# Altium footprint library clever_watch.PcbLib: 30 footprints (part 1 of 2)
Each footprint in its own frame and in the unit in brackets; x right, y up, seen from the top. Pads: shape width x height; smd on the part's side, far side on the other; paste and mask are expansions set on the pad; w line width, h text height; cw(c..) or ccw(c..) is an arc to the next point about the centre after c.
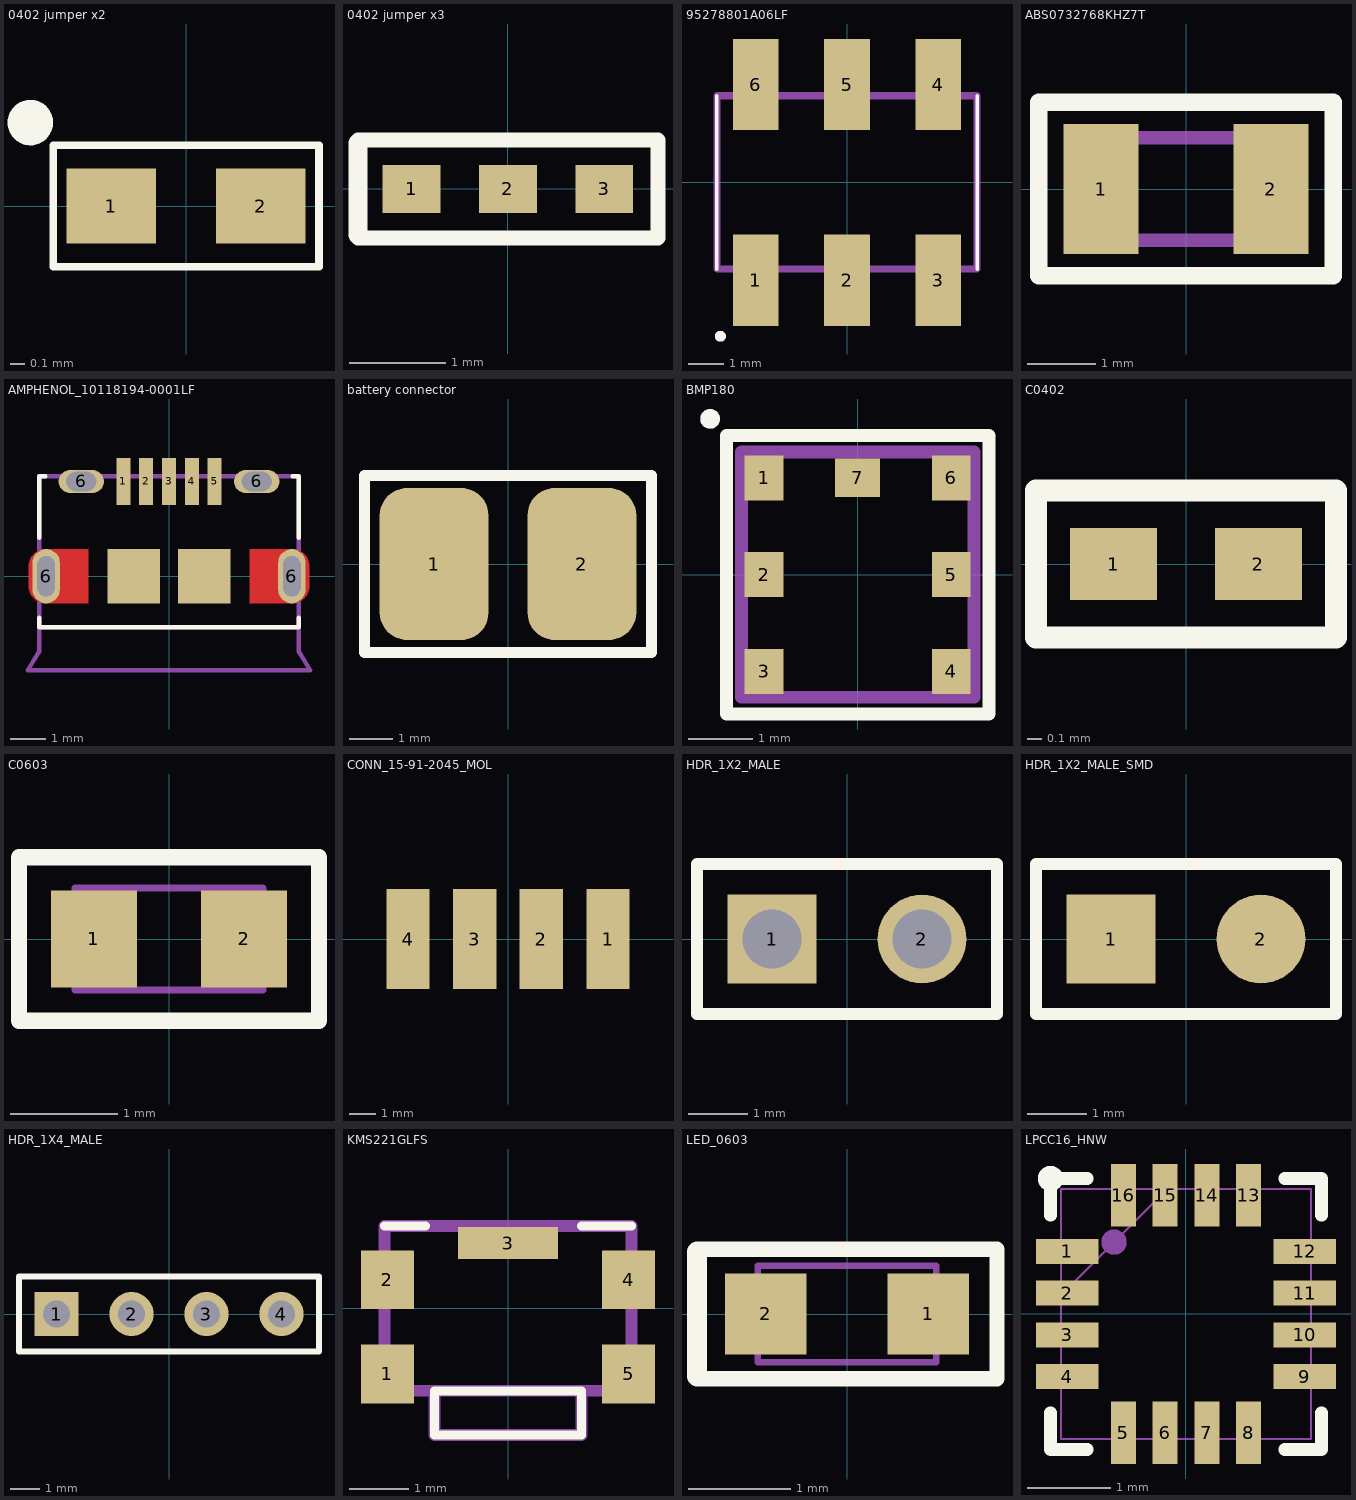
[diagram p0: the footprints below, top view; thin cyan lines are the x and y axes]

## 0402 jumper x2 [mm]
pads (2):
  rect 0.6x0.5 smd: 1(-0.5,0) 2(0.5,0)
Top Overlay:
  circle w0.152: c-1.041,0.559 r0.076
  lines w0.051: -0.889,-0.406 0.889,-0.406 0.889,0.406 -0.889,0.406 -0.889,-0.406

## 0402 jumper x3 [mm]
pads (3):
  rect 0.6x0.5 smd: 1(-1,0) 2(0,0) 3(1,0)
Top Overlay:
  lines w0.152: -1.556,-0.508 1.558,-0.508 1.558,0.508 -1.556,0.508
  lines w0.2: -1.556,-0.475 -1.556,0.475

## 95278801A06LF [mm]
pads (6):
  rect 1.27x2.54 smd: 1(-2.54,-2.73) 2(0,-2.73) 3(2.54,-2.73) 4(2.54,2.73) 5(0,2.73) 6(-2.54,2.73)
Top Overlay:
  circle w0.152: c-3.531,-4.293 r0.076
  lines w0.1: -3.63,-2.415 -3.63,2.415 ; 3.63,-2.415 3.63,2.415
Mechanical 13:
  lines w0.2: -3.63,-2.415 -3.63,2.415 3.63,2.415 3.63,-2.415 -3.63,-2.415
3D body "95278_y01_06_asm.stp": height 9.66, standoff 0, extent -3.581,-3.643 3.639,3.643

## ABS0732768KHZ7T [mil]
pads (2):
  rect 43x75 smd: 1(-49,0) 2(49,0)
Top Overlay:
  lines w10: -85,-50 -85,50 85,50 85,-50 -85,-50
Mechanical 13:
  lines w7.87: -62.99,-29.53 -62.99,29.53 62.99,29.53 62.99,-29.53 -62.99,-29.53
3D body "ABS07-32.768KHZ-7-T.stp": height 35.43, standoff 0, extent -62.99,-29.53 62.99,29.53

## AMPHENOL_10118194-0001LF [mm]
pads (11):
  rect 0.4x1.35 smd: 1(-1.3,2.7) 2(-0.65,2.7) 3(0,2.7) 4(0.65,2.7) 5(1.3,2.7)
  oval 0.775x1.55 hole 0.5 slot 1.15 at 90 deg: 6(-3.5,0) 6(3.5,0)
  oval 1.3x0.65 hole 0.55 slot 0.85 at 0 deg: 6(-2.5,2.7) 6(2.5,2.7)
  rect 1.5x1.55 smd: ""(-1,0) ""(1,0)
Top Layer:
  region: 192 vertices and 0 holes, not listed, extent 2.3,-0.78 4,0.775
  region: 192 vertices and 0 holes, not listed, extent -4,-0.775 -2.3,0.78
Top Overlay:
  lines w0.127: -3.7,-1.18 -3.7,-1.45 3.7,-1.45 3.7,-1.18 ; -3.7,1.095 -3.7,2.85 -3.52,2.85 ; 3.52,2.85 3.7,2.85 3.7,1.095
Top Paste:
  drawing of 6 lines, arcs and shapes, not listed
Top Solder:
  region: 3.626,0.874 3.652,0.872 3.678,0.869 3.704,0.864 3.729,0.858 3.755,0.851 3.779,0.842 3.803,0.832 3.827,0.821 3.85,0.808 3.872,0.794 3.894,0.78 3.915,0.764 3.935,0.747 3.954,0.729 3.972,0.71 3.989,0.69 4.005,0.669 4.019,0.647 4.033,0.625 4.046,0.602 4.057,0.578 4.067,0.554 4.076,0.53 4.083,0.504 4.089,0.479 4.094,0.453 4.097,0.427 4.099,0.401 4.1,0.375 4.1,-0.375 4.099,-0.401 4.097,-0.427 4.094,-0.453 4.089,-0.479 4.083,-0.504 4.076,-0.53 4.067,-0.554 4.057,-0.578 4.046,-0.602 4.033,-0.625 4.019,-0.647 4.005,-0.669 3.989,-0.69 3.972,-0.71 3.954,-0.729 3.935,-0.747 3.915,-0.764 3.894,-0.78 3.872,-0.794 3.85,-0.808 3.827,-0.821 3.803,-0.832 3.779,-0.842 3.755,-0.851 3.729,-0.858 3.704,-0.864 3.678,-0.869 3.652,-0.872 3.626,-0.874 3.6,-0.875 2.2,-0.875 2.2,0.875 3.6,0.875
  region: -2.2,-0.875 -3.6,-0.875 -3.626,-0.874 -3.652,-0.872 -3.678,-0.869 -3.704,-0.864 -3.729,-0.858 -3.755,-0.851 -3.779,-0.842 -3.803,-0.832 -3.827,-0.821 -3.85,-0.808 -3.872,-0.794 -3.894,-0.78 -3.915,-0.764 -3.935,-0.747 -3.954,-0.729 -3.972,-0.71 -3.989,-0.69 -4.005,-0.669 -4.019,-0.647 -4.033,-0.625 -4.046,-0.602 -4.057,-0.578 -4.067,-0.554 -4.076,-0.53 -4.083,-0.504 -4.089,-0.479 -4.094,-0.453 -4.097,-0.427 -4.099,-0.401 -4.1,-0.375 -4.1,0.375 -4.099,0.401 -4.097,0.427 -4.094,0.453 -4.089,0.479 -4.083,0.504 -4.076,0.53 -4.067,0.554 -4.057,0.578 -4.046,0.602 -4.033,0.625 -4.019,0.647 -4.005,0.669 -3.989,0.69 -3.972,0.71 -3.954,0.729 -3.935,0.747 -3.915,0.764 -3.894,0.78 -3.872,0.794 -3.85,0.808 -3.827,0.821 -3.803,0.832 -3.779,0.842 -3.755,0.851 -3.729,0.858 -3.704,0.864 -3.678,0.869 -3.652,0.872 -3.626,0.874 -3.6,0.875 -2.2,0.875
Mechanical 13:
  lines w0.127: -3.7,-1.45 -3.7,-2.15 -4.025,-2.68 4.025,-2.68 3.7,-2.15 3.7,-1.45 ; -3.7,-1.45 -3.7,2.85 3.7,2.85 3.7,-1.45 ; -3.7,-1.45 3.7,-1.45
  text "PCB END" at -1.95,-2.1 h0.5
3D body "Micro USB-B Female 5Pin SMD.STEP": height 2.7, standoff -1.02, extent -4.037,-2.646 4.013,3.154

## battery connector [mm]
pads (2):
  rrect50% 2.5x3.5 smd: 1(-1.7,0) 2(1.7,0)
Top Overlay:
  lines w0.254: -3.302,-2.032 -3.302,2.032 3.302,2.032 3.302,-2.032 -3.302,-2.032

## BMP180 [mm]
pads (7):
  rect 0.6x0.7 smd: 1(-1.45,1.5) 2(-1.45,0) 3(-1.45,-1.5) 4(1.45,-1.5) 5(1.45,0) 6(1.45,1.5)
  rect 0.7x0.6 smd: 7(0,1.5)
Top Overlay:
  circle w0.152: c-2.286,2.413 r0.076
  lines w0.2: -2.032,-2.159 2.032,-2.159 2.032,2.159 -2.032,2.159 -2.032,-2.159
Mechanical 13:
  circle w0.152: c-2.286,2.413 r0.076
  lines w0.2: -1.8,-1.9 -1.8,1.9 1.8,1.9 1.8,-1.9 -1.8,-1.9
3D body "BMP180.stp": height 0.93, standoff 0, extent -1.8,-1.9 1.8,1.9

## C0402 [mm]
pads (2):
  rect 0.6x0.5 smd: 1(-0.5,0) 2(0.5,0)
Top Overlay:
  lines w0.152: 1.016,-0.508 -1.035,-0.508 -1.035,0.508 1.016,0.508 ; 1.035,-0.508 1.035,0.508
3D body "C0402.SLDPRT": height 0.48, standoff -0.02, extent -0.5,-0.25 0.5,0.25

## C0603 [mm]
pads (2):
  rect 0.8x0.9 smd: 1(-0.7,0) 2(0.7,0)
Top Overlay:
  lines w0.152: -1.397,-0.762 1.397,-0.762 1.397,0.762 -1.397,0.762 -1.397,-0.762
Mechanical 13:
  lines w0.065: -0.875,-0.475 0.875,-0.475 0.875,0.475 -0.875,0.475 -0.875,-0.475
3D body "C0603.SLDPRT": height 0.9, standoff 0, extent -0.8,-0.4 0.8,0.4

## CONN_15-91-2045_MOL [mil]
pads (4):
  rect 65x150 smd paste+0 mask+0: 1(150,0) 2(50,0) 3(-50,0) 4(-150,0)
3D body "DS1021-1x4SF11.stp": height 101.18, standoff 1.18, extent -200,-48.11 200,408.58

## HDR_1X2_MALE [mm] "Connector; Header; 2 Position"
pads (2):
  rect 1.5x1.5 hole 1: 1(-1.27,0)
  round 1.5 hole 1: 2(1.27,0)
Top Overlay:
  lines w0.2: -2.54,-1.27 -2.54,1.27 2.54,1.27 2.54,-1.27 -2.54,-1.27

## HDR_1X2_MALE_SMD [mm] "Connector; Header; 2 Position"
pads (2):
  rect 1.5x1.5 smd: 1(-1.27,0)
  round 1.5 smd: 2(1.27,0)
Top Overlay:
  lines w0.2: -2.54,-1.27 -2.54,1.27 2.54,1.27 2.54,-1.27 -2.54,-1.27

## HDR_1X4_MALE [mm] "Connector; Header; 4 Position"
pads (4):
  rect 1.5x1.5 hole 0.9: 1(-3.81,0)
  round 1.5 hole 0.9: 2(-1.27,0) 3(1.27,0) 4(3.81,0)
Top Overlay:
  lines w0.2: -5.08,-1.27 5.08,-1.27 5.08,1.27 -5.08,1.27 -5.08,-1.27
3D body "DS1021-1x4SF11.stp": height 8.6, standoff -3, extent -5.08,-1.27 5.08,1.27

## KMS221GLFS [mm]
pads (5):
  rect 0.9x1 smd: 1(-2.05,-1.112) 2(-2.05,0.487) 4(2.05,0.487) 5(2.05,-1.112)
  rect 1.7x0.55 smd: 3(0,1.112)
Top Overlay:
  lines w0.152: -2.1,1.4 -1.4,1.4 ; 1.25,1.4 2.1,1.4 ; -1.25,-2.15 -1.25,-1.4 1.25,-1.4 1.25,-2.15 -1.25,-2.15
Mechanical 13:
  lines w0.2: -1.25,-1.4 -1.25,-2.15 1.25,-2.15 1.25,-1.4 ; -2.1,-1.4 -2.1,1.4 2.1,1.4 2.1,-1.4 -2.1,-1.4

## LED_0603 [mm] "LED_0603"
pads (2):
  rect 0.8x0.8 smd: 1(0.8,0) 2(-0.8,0)
Top Overlay:
  lines w0.152: -1.473,-0.61 -1.448,-0.635 1.473,-0.635 1.473,0.635 -1.448,0.635 -1.473,0.61
  lines w0.2: -1.473,-0.61 -1.473,0.61
Mechanical 13:
  lines w0.065: -0.875,-0.475 -0.875,0.475 0.875,0.475 0.875,-0.475 -0.875,-0.475
3D body "User Library-LED_0603_R.STEP": height 0.6, standoff 0, extent -0.8,-0.4 0.8,0.4

## LPCC16_HNW [mm]
pads (16):
  rect 0.75x0.3 smd paste+0 mask+0: 1(-1.425,0.75) 2(-1.425,0.25) 3(-1.425,-0.25) 4(-1.425,-0.75) 9(1.425,-0.75) 10(1.425,-0.25) 11(1.425,0.25) 12(1.425,0.75)
  rect 0.3x0.75 smd paste+0 mask+0: 5(-0.75,-1.425) 6(-0.25,-1.425) 7(0.25,-1.425) 8(0.75,-1.425) 13(0.75,1.425) 14(0.25,1.425) 15(-0.25,1.425) 16(-0.75,1.425)
Top Overlay:
  circle w0.152: c-1.626,1.626 r0.076
  lines w0.152: -1.626,-1.184 -1.626,-1.626 -1.184,-1.626 ; -1.626,1.184 -1.626,1.626 -1.184,1.626 ; 1.184,-1.626 1.626,-1.626 1.626,-1.184 ; 1.184,1.626 1.626,1.626 1.626,1.184
Mechanical 13:
  circle w0.152: c-0.864,0.864 r0.076
  lines w0.025: -1.499,0.229 -0.229,1.499 ; -1.499,-1.499 1.499,-1.499 1.499,1.499 -1.499,1.499 -1.499,-1.499 ; -1.499,-0.877 -1.499,-0.623 -1.499,-0.877 ; -1.499,-0.377 -1.499,-0.123 -1.499,-0.377 ; -1.499,0.123 -1.499,0.377 -1.499,0.123 ; -1.499,0.623 -1.499,0.877 -1.499,0.623 ; -0.877,-1.499 -0.623,-1.499 -0.877,-1.499 ; -0.877,1.499 -0.623,1.499 -0.877,1.499 ; -0.377,-1.499 -0.123,-1.499 -0.377,-1.499 ; -0.377,1.499 -0.123,1.499 -0.377,1.499 ; 0.123,-1.499 0.377,-1.499 0.123,-1.499 ; 0.123,1.499 0.377,1.499 0.123,1.499 ; 0.623,-1.499 0.877,-1.499 0.623,-1.499 ; 0.623,1.499 0.877,1.499 0.623,1.499 ; 1.499,-0.877 1.499,-0.623 1.499,-0.877 ; 1.499,-0.377 1.499,-0.123 1.499,-0.377 ; 1.499,0.123 1.499,0.377 1.499,0.123 ; 1.499,0.623 1.499,0.877 1.499,0.623
3D body "LPCC16_HNW.step": height 0.89, standoff 0, extent -1.499,-1.499 1.499,1.499